# EAGLE library part MAX3375E (library dragino)
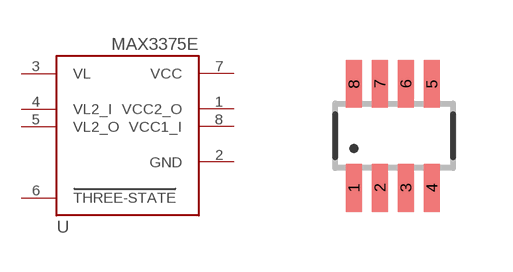
[diagram p9: symbol with the pads of SOT23-8; footprint SOT23-8]

Designator prefix -

## MAX3375E  [SOT23-8]
1  VCC2_O
2  GND
3  VL  pwr
4  VL2_I
5  VL2_O
6  THREE-STATE
7  VCC  pwr
8  VCC1_I

## Footprint SOT23-8 (pad centres in mm)
8-Lead SOT23-8 (0.65 mm grid) Small Outline Transistor source: Maxim (www.maxim-ic.com)
smd 0.4 x 1.2: 1 -0.975,-1.3; 2 -0.325,-1.3; 3 0.325,-1.3; 4 0.975,-1.3; 5 0.975,1.3; 6 0.325,1.3; 7 -0.325,1.3; 8 -0.975,1.3